# EAGLE library part MIC47100YMME (library circuit_tree)
IC
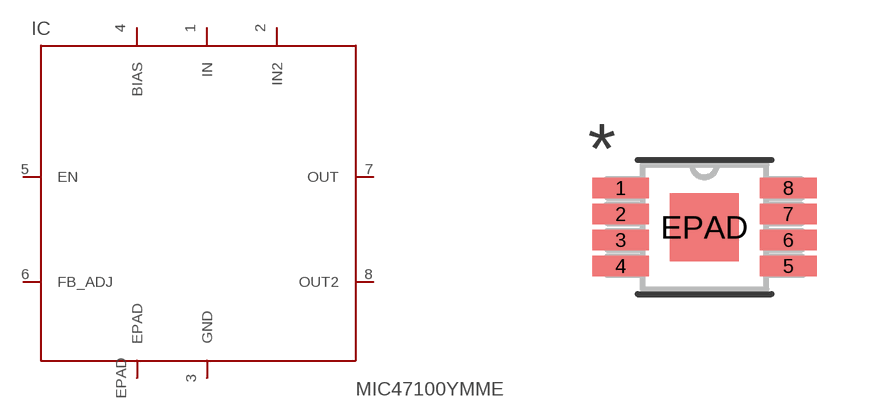
[diagram p3: symbol with the pads of MSOP-8_EP; footprint MSOP-8_EP]

Designator prefix IC

## MIC47100YMME  [MSOP-8_EP]
1  IN  pas
2  IN2  pas
3  GND  pas
4  BIAS  pas
5  EN  pas
6  FB_ADJ  pas
7  OUT  pas
8  OUT2  pas
EPAD  EPAD  pas

## Footprint MSOP-8_EP (pad centres in mm)
smd 1.422 x 0.508: 1 -2.095,0.975; 2 -2.095,0.325; 3 -2.095,-0.325; 4 -2.095,-0.975; 5 2.095,-0.975; 6 2.095,-0.325; 7 2.095,0.325; 8 2.095,0.975
smd 1.727 x 1.702: EPAD 0,0